# EAGLE library part DPDT (library common)
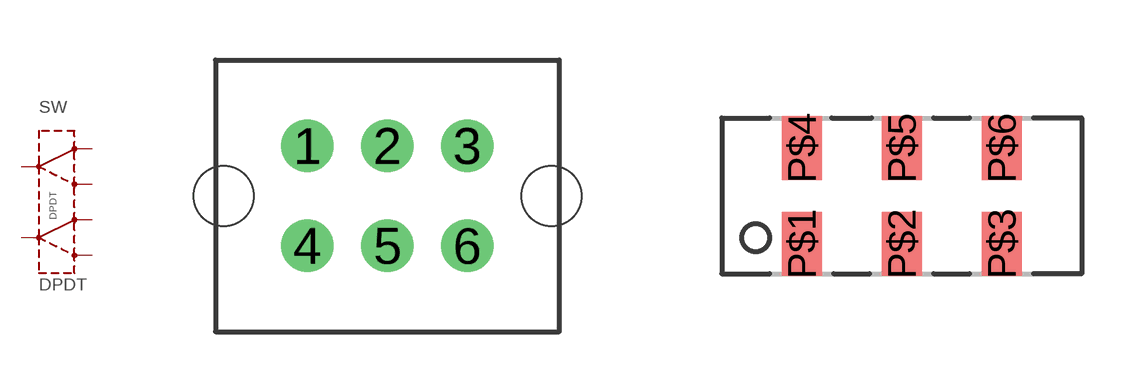
[diagram p22: symbol with the pads of DPDT-2X2.5; footprints DPDT-2X2.5, CAS-A]

Designator prefix SW

## DPDTDPDT-2X2.5  [DPDT-2X2.5]
1  OUTA1
2  INA
3  OUTA2
4  OUTB1
5  INB
6  OUTB2

## DPDTCAS-A  [CAS-A]
P$1  OUTA1
P$2  INA
P$3  OUTA2
P$4  OUTB1
P$5  INB
P$6  OUTB2

## DPDT  [WIRES-2X6-14G]
1  OUTA1
2  INA
3  OUTA2
4  OUTB2
5  INB
6  OUTB1

## Footprint DPDT-2X2.5 (pad centres in mm)
drill 0.8: 1 -2,1.25; 2 0,1.25; 3 2,1.25; 4 -2,-1.25; 5 0,-1.25; 6 2,-1.25
hole 1.5 at -4.1,0
hole 1.5 at 4.1,0

## Footprint CAS-A (pad centres in mm)
smd 1 x 1.6: P$1 -2.5,-1.2; P$2 0,-1.2; P$3 2.5,-1.2; P$4 -2.5,1.2; P$5 0,1.2; P$6 2.5,1.2

## Footprint WIRES-2X6-14G (pad centres in mm)
drill 2.032: 1 -3.81,-1.27; 2 0,-1.27; 3 3.81,-1.27; 4 3.81,2.54; 5 0,2.54; 6 -3.81,2.54